# Altium schematic symbol library N-MOS 1G2S3D.SchLib: 1 symbol
Pins are listed as number, name and electrical type; pins without a type are passive.

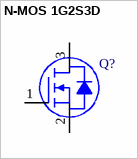
[diagram p0: symbol N-MOS 1G2S3D]

## N-MOS 1G2S3D
designator Q?
MOSFET N-CH 1G2S3D
pins: 1 G, 2 S, 3 D